# Altium footprint library PCB - RESISTOR - ARRAY - RESNET 1606-16 CONVEX.PcbLib: 1 footprints
Each footprint in its own frame and in the unit in brackets; x right, y up, seen from the top. Pads: shape width x height; smd on the part's side, far side on the other; paste and mask are expansions set on the pad; w line width, h text height; cw(c..) or ccw(c..) is an arc to the next point about the centre after c.
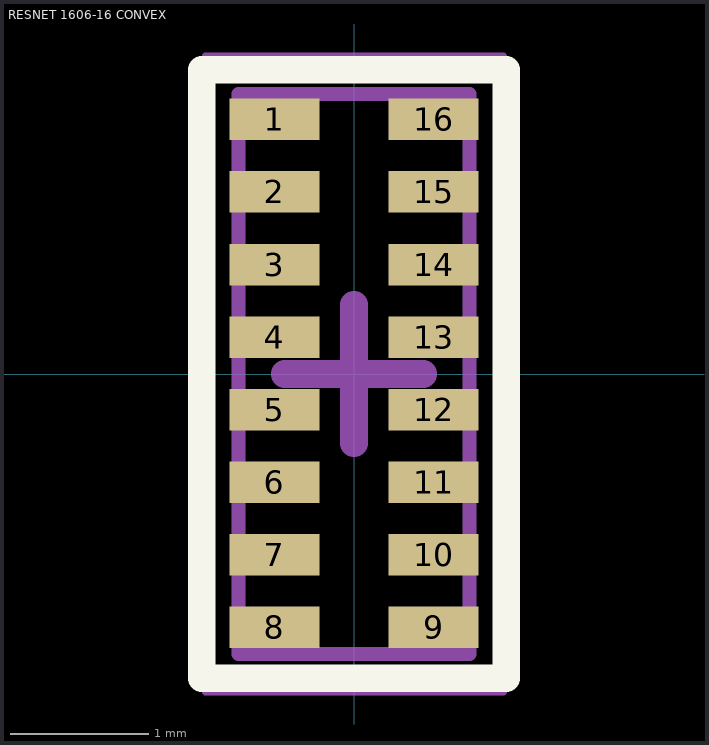
[diagram p0: the footprint, top view; thin cyan lines are the x and y axes]

## RESNET 1606-16 CONVEX [mm] "Array Chip Resistor, 16 leads, 8 resistors"
height 0.55
pads (16):
  rect 0.65x0.3 smd mask+0.032: 1(-0.575,1.84) 2(-0.575,1.316) 4(-0.575,0.267) 5(-0.575,-0.257) 6(-0.575,-0.781) 7(-0.575,-1.306) 8(-0.575,-1.83) 9(0.575,-1.83) 10(0.575,-1.306) 11(0.575,-0.781) 12(0.575,-0.257) 13(0.575,0.267) 15(0.575,1.316) 16(0.575,1.84)
  rect 0.65x0.3 smd paste+0 mask+0.032: 3(-0.575,0.791) 14(0.575,0.791)
Top Overlay:
  lines w0.2: -1.1,-2.2 1.1,-2.2 1.1,2.2 -1.1,2.2 -1.1,-2.2
Mechanical 13:
  lines w0.1: 0.835,2.025 -0.835,2.025 -0.835,-2.025 0.835,-2.025 0.835,2.025 ; 0.835,2.025 0.835,2.025
Mechanical 15:
  lines w0.05: -1.075,-2.3 1.08,-2.3 1.08,2.3 -1.075,2.3 -1.075,1.495 -1.075,-2.3
Mechanical 2 (Mech9):
  lines w0.2: -0.5,0 0.5,0 ; 0,-0.5 0,0.5
3D body "RESNET - 1606 Convex.step": height 0.56, standoff 0, extent -0.837,-2.025 0.838,2.025